# Altium schematic symbol library SCH - POWER - LINEAR VREG - TI LP38693MP-1.8.SchLib: 1 symbol
Pins are listed as number, name and electrical type; pins without a type are passive.

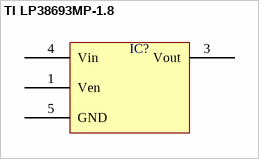
[diagram p0: symbol TI LP38693MP-1.8]

## TI LP38693MP-1.8
designator IC?  (value not drawn)
pins: 1 Ven, 3 Vout, 4 Vin, 5 GND